# Altium footprint library ControlCircuit_PCB_Library_V1_0.PcbLib: 207 footprints (part 4 of 13)
Each footprint in its own frame and in the unit in brackets; x right, y up, seen from the top. Pads: shape width x height; smd on the part's side, far side on the other; paste and mask are expansions set on the pad; w line width, h text height; cw(c..) or ccw(c..) is an arc to the next point about the centre after c.
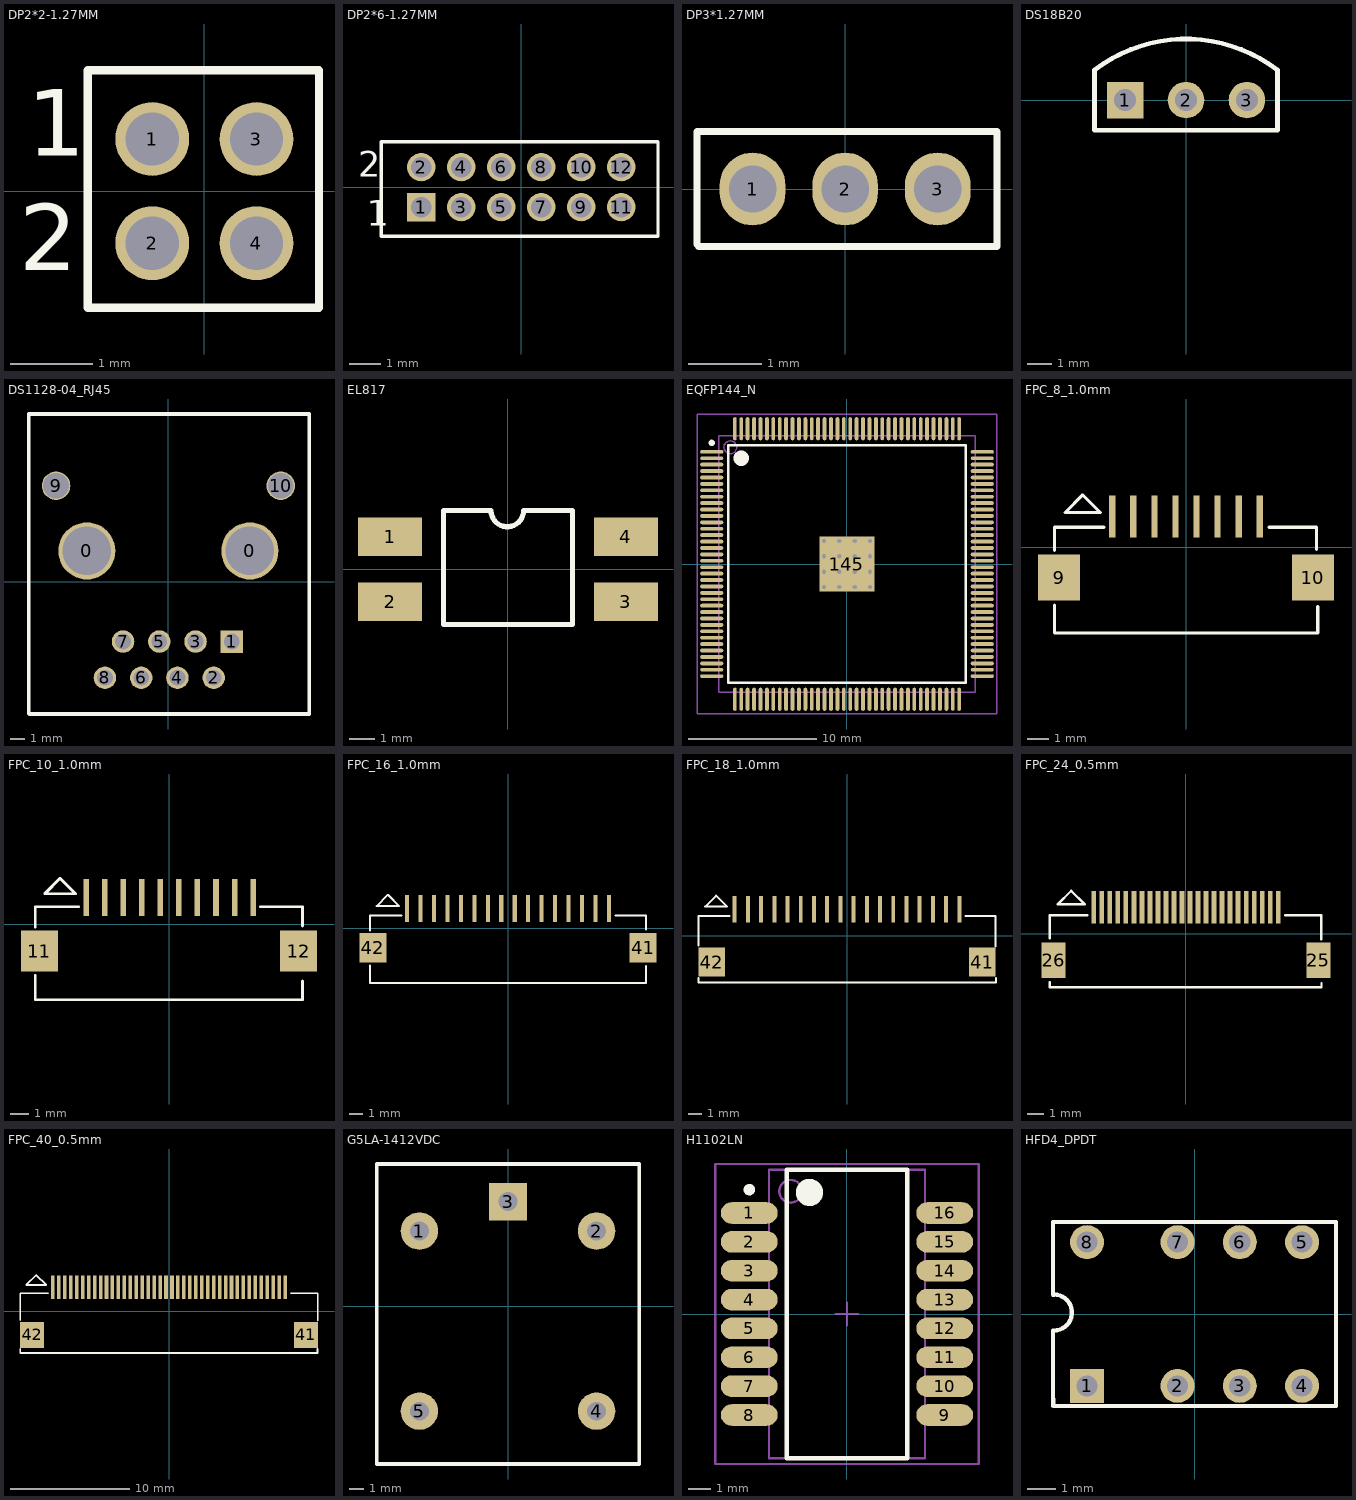
[diagram p3: the footprints below, top view; thin cyan lines are the x and y axes]

## DP2*2-1.27MM [mm]
pads (4):
  round 0.9 hole 0.65: 1(-0.635,0.635) 2(-0.635,-0.635) 3(0.635,0.635) 4(0.635,-0.635)
Top Overlay:
  lines w0.1: -1.422,-1.422 -1.422,1.473 1.397,1.473 1.397,-1.422 -1.397,-1.422
  text "2" at -2.261,-0.965 h0.81
  text "1" at -2.159,0.432 h0.81

## DP2*6-1.27MM [mm]
pads (12):
  rect 0.9x0.9 hole 0.65: 1(-3.175,-0.635)
  round 0.9 hole 0.65: 2(-3.175,0.635) 3(-1.905,-0.635) 4(-1.905,0.635) 5(-0.635,-0.635) 6(-0.635,0.635) 7(0.635,-0.635) 8(0.635,0.635) 9(1.905,-0.635) 10(1.905,0.635) 11(3.175,-0.635) 12(3.175,0.635)
Top Overlay:
  lines w0.1: -4.445,-1.56 -4.445,1.44 4.343,1.44 4.343,-1.56 -4.445,-1.56
  text "2" at -5.182,0.33 h0.81
  text "1" at -4.902,-1.219 h0.81

## DP3*1.27MM [mm]
pads (3):
  oval 0.9x1 hole 0.65: 1(-1.27,0) 2(0,0) 3(1.27,0)
Top Overlay:
  lines w0.1: -2.032,-0.762 -2.007,-0.787 2.083,-0.787 2.083,0.787 -2.032,0.787 -2.032,-0.762

## DS18B20 [mil]
pads (3):
  rect 60x60 hole 36: 1(-100,0)
  round 60 hole 36: 2(0,0) 3(100,0)
Top Overlay:
  lines w7.87: -150,49.25 -150,-49.53 150,-49.53 150,49.25 ; -149.92,49.31 cw(c0,-146.07) 149.92,49.31

## DS1128-04_RJ45 [mm]
pads (12):
  round 4 hole 3.4: 0(-5.715,2.16) 0(5.715,2.16)
  rect 1.575x1.575 hole 1.1: 1(4.445,-4.19)
  round 1.575 hole 1.1: 2(3.175,-6.73) 3(1.905,-4.19) 4(0.635,-6.73) 5(-0.635,-4.19) 6(-1.905,-6.73) 7(-3.175,-4.19) 8(-4.445,-6.73)
  round 2 hole 1.8: 9(-7.875,6.73) 10(7.875,6.73)
Top Overlay:
  lines w0.254: -9.788,-9.236 -9.788,11.764 9.875,11.764 9.875,-9.27 -9.754,-9.27 -9.788,-9.236

## EL817 [mm]
pads (4):
  rect 2.5x1.5 smd: 1(-4.6,1.27) 2(-4.6,-1.27) 3(4.6,-1.27) 4(4.6,1.27)
Top Overlay:
  lines w0.2: 0.607,2.286 cw(c-0.028,2.286) -0.663,2.286 -2.515,2.286 -2.515,-2.159 2.515,-2.159 2.515,2.286 0.635,2.286

## EQFP144_N [mm] "Thin QFP, 144-Leads, Body 20x20mm, Pitch 0.5mm, IPC Medium Density"
height 1.6
pads (145):
  oval 1.8x0.3 smd: 1(-10.55,8.75) 2(-10.55,8.25) 3(-10.55,7.75) 4(-10.55,7.25) 5(-10.55,6.75) 6(-10.55,6.25) 7(-10.55,5.75) 8(-10.55,5.25) 9(-10.55,4.75) 10(-10.55,4.25) 11(-10.55,3.75) 12(-10.55,3.25) 13(-10.55,2.75) 14(-10.55,2.25) 15(-10.55,1.75) 16(-10.55,1.25) 17(-10.55,0.75) 18(-10.55,0.25) 19(-10.55,-0.25) 20(-10.55,-0.75) 21(-10.55,-1.25) 22(-10.55,-1.75) 23(-10.55,-2.25) 24(-10.55,-2.75) 25(-10.55,-3.25) 26(-10.55,-3.75) 27(-10.55,-4.25) 28(-10.55,-4.75) 29(-10.55,-5.25) 30(-10.55,-5.75) 31(-10.55,-6.25) 32(-10.55,-6.75) 33(-10.55,-7.25) 34(-10.55,-7.75) 35(-10.55,-8.25) 36(-10.55,-8.75) 73(10.55,-8.75) 74(10.55,-8.25) 75(10.55,-7.75) 76(10.55,-7.25) 77(10.55,-6.75) 78(10.55,-6.25) 79(10.55,-5.75) 80(10.55,-5.25) 81(10.55,-4.75) 82(10.55,-4.25) 83(10.55,-3.75) 84(10.55,-3.25) 85(10.55,-2.75) 86(10.55,-2.25) 87(10.55,-1.75) 88(10.55,-1.25) 89(10.55,-0.75) 90(10.55,-0.25) 91(10.55,0.25) 92(10.55,0.75) 93(10.55,1.25) 94(10.55,1.75) 95(10.55,2.25) 96(10.55,2.75) 97(10.55,3.25) 98(10.55,3.75) 99(10.55,4.25) 100(10.55,4.75) 101(10.55,5.25) 102(10.55,5.75) 103(10.55,6.25) 104(10.55,6.75) 105(10.55,7.25) 106(10.55,7.75) 107(10.55,8.25) 108(10.55,8.75)
  oval 0.3x1.8 smd: 37(-8.75,-10.55) 38(-8.25,-10.55) 39(-7.75,-10.55) 40(-7.25,-10.55) 41(-6.75,-10.55) 42(-6.25,-10.55) 43(-5.75,-10.55) 44(-5.25,-10.55) 45(-4.75,-10.55) 46(-4.25,-10.55) 47(-3.75,-10.55) 48(-3.25,-10.55) 49(-2.75,-10.55) 50(-2.25,-10.55) 51(-1.75,-10.55) 52(-1.25,-10.55) 53(-0.75,-10.55) 54(-0.25,-10.55) 55(0.25,-10.55) 56(0.75,-10.55) 57(1.25,-10.55) 58(1.75,-10.55) 59(2.25,-10.55) 60(2.75,-10.55) 61(3.25,-10.55) 62(3.75,-10.55) 63(4.25,-10.55) 64(4.75,-10.55) 65(5.25,-10.55) 66(5.75,-10.55) 67(6.25,-10.55) 68(6.75,-10.55) 69(7.25,-10.55) 70(7.75,-10.55) 71(8.25,-10.55) 72(8.75,-10.55) 109(8.75,10.55) 110(8.25,10.55) 111(7.75,10.55) 112(7.25,10.55) 113(6.75,10.55) 114(6.25,10.55) 115(5.75,10.55) 116(5.25,10.55) 117(4.75,10.55) 118(4.25,10.55) 119(3.75,10.55) 120(3.25,10.55) 121(2.75,10.55) 122(2.25,10.55) 123(1.75,10.55) 124(1.25,10.55) 125(0.75,10.55) 126(0.25,10.55) 127(-0.25,10.55) 128(-0.75,10.55) 129(-1.25,10.55) 130(-1.75,10.55) 131(-2.25,10.55) 132(-2.75,10.55) 133(-3.25,10.55) 134(-3.75,10.55) 135(-4.25,10.55) 136(-4.75,10.55) 137(-5.25,10.55) 138(-5.75,10.55) 139(-6.25,10.55) 140(-6.75,10.55) 141(-7.25,10.55) 142(-7.75,10.55) 143(-8.25,10.55) 144(-8.75,10.55)
  rect 4.3x4.3 smd: 145(0,0)
via -1.8,1.8 diameter 0.66 hole 0.33
via -0.6,1.8 diameter 0.66 hole 0.33
via 0.6,1.8 diameter 0.66 hole 0.33
via 1.8,1.8 diameter 0.66 hole 0.33
via -1.8,0.6 diameter 0.66 hole 0.33
via -0.6,0.6 diameter 0.66 hole 0.33
via 0.6,0.6 diameter 0.66 hole 0.33
via 1.8,0.6 diameter 0.66 hole 0.33
via -1.8,-0.6 diameter 0.66 hole 0.33
via -0.6,-0.6 diameter 0.66 hole 0.33
via 0.6,-0.6 diameter 0.66 hole 0.33
via 1.8,-0.6 diameter 0.66 hole 0.33
via -1.8,-1.8 diameter 0.66 hole 0.33
via -0.6,-1.8 diameter 0.66 hole 0.33
via 0.6,-1.8 diameter 0.66 hole 0.33
via 1.8,-1.8 diameter 0.66 hole 0.33
Top Overlay:
  circle w0.25: c-10.55,9.45 r0.125
  circle w0.6: c-8.25,8.25 r0.3
  lines w0.2: -9.25,-9.25 -9.25,9.25 9.25,9.25 9.25,-9.25 -9.25,-9.25
Mechanical 13:
  circle w0.1: c-9.1,9.1 r0.5
  lines w0.1: -10,-10 -10,10 10,10 10,-10 -10,-10
Mechanical 15:
  lines w0.1: -0.5,0 0.5,0 ; 0,-0.5 0,0.5 ; -11.7,-11.7 -11.7,11.7 11.7,11.7 11.7,-11.7 -11.7,-11.7
3D body: height 1.6, standoff 0, extent -10,-10 10,10

## FPC_8_1.0mm [mm]
height 1
pads (10):
  rect 0.3x2 smd: 1(-3.5,1.448) 2(-2.499,1.448) 3(-1.499,1.448) 4(-0.499,1.448) 5(0.5,1.448) 6(1.5,1.448) 7(2.501,1.448) 8(3.501,1.448)
  rect 2x2.2 smd: 9(-6.025,-1.448) 10(6.025,-1.448)
Top Overlay:
  lines w0.152: -6.249,-0.152 -6.249,0.938 -3.899,0.938 ; -6.247,-2.769 -6.247,-4.078 6.254,-4.078 ; -4.904,2.478 -5.739,1.644 -4.075,1.644 -4.902,2.471 ; 3.941,0.938 6.203,0.938 ; 6.203,-0.102 6.203,0.913 ; 6.254,-4.088 6.254,-2.819

## FPC_10_1.0mm [mm]
height 1
pads (12):
  rect 0.3x2 smd: 1(-4.465,1.448) 2(-3.465,1.448) 3(-2.465,1.448) 4(-1.465,1.448) 5(-0.465,1.448) 6(0.535,1.448) 7(1.535,1.448) 8(2.535,1.448) 9(3.535,1.448) 10(4.535,1.448)
  rect 2x2.2 smd: 11(-6.991,-1.448) 12(6.991,-1.448)
Top Overlay:
  lines w0.152: -7.215,-0.152 -7.215,0.938 -4.864,0.938 ; -7.213,-2.769 -7.213,-4.078 7.194,-4.078 7.194,-3.064 ; -5.87,2.478 -6.704,1.644 -5.04,1.644 -5.867,2.471 ; 4.931,0.938 7.194,0.938 ; 7.194,-0.102 7.194,0.913

## FPC_16_1.0mm [mm]
pads (18):
  rect 0.3x2 smd: 1(-7.5,1.448) 2(-6.5,1.448) 3(-5.5,1.448) 4(-4.5,1.448) 5(-3.5,1.448) 6(-2.5,1.448) 7(-1.5,1.448) 8(-0.5,1.448) 9(0.5,1.448) 10(1.5,1.448) 11(2.5,1.448) 12(3.5,1.448) 13(4.5,1.448) 14(5.5,1.448) 15(6.5,1.448) 16(7.5,1.448)
  rect 2x2.2 smd: 41(10.026,-1.448) 42(-10.026,-1.448)
Top Overlay:
  lines w0.152: -10.25,-0.152 -10.25,0.938 -7.9,0.938 ; -10.248,-2.769 -10.248,-4.078 10.229,-4.078 10.229,-2.794 ; -8.905,2.478 -9.74,1.644 -8.075,1.644 -8.903,2.471 ; 7.966,0.938 10.229,0.938 ; 10.229,-0.102 10.229,0.913

## FPC_18_1.0mm [mm]
pads (20):
  rect 0.3x2 smd: 1(-8.5,2) 2(-7.5,2) 3(-6.5,2) 4(-5.5,2) 5(-4.5,2) 6(-3.5,2) 7(-2.5,2) 8(-1.5,2) 9(-0.5,2) 10(0.5,2) 11(1.5,2) 12(2.5,2) 13(3.5,2) 14(4.5,2) 15(5.5,2) 16(6.5,2) 17(7.5,2) 18(8.5,2)
  rect 2x2.2 smd: 41(10.25,-2) 42(-10.25,-2)
Top Overlay:
  lines w0.152: -11.25,-0.741 -11.25,1.49 -8.9,1.49 ; -11.248,-3.2 -11.248,-3.526 11.287,-3.526 11.287,-3.2 ; -9.905,3.03 -10.74,2.196 -9.075,2.196 -9.903,3.023 ; 8.966,1.49 11.229,1.49 ; 11.235,-0.806 11.235,1.465

## FPC_24_0.5mm [mm]
height 1.5
pads (26):
  rect 0.3x2 smd: 1(-5.75,1.65) 2(-5.25,1.65) 3(-4.75,1.65) 4(-4.25,1.65) 5(-3.75,1.65) 6(-3.25,1.65) 7(-2.75,1.65) 8(-2.25,1.65) 9(-1.75,1.65) 10(-1.25,1.65) 11(-0.75,1.65) 12(-0.25,1.65) 13(0.25,1.65) 14(0.75,1.65) 15(1.25,1.65) 16(1.75,1.65) 17(2.25,1.65) 18(2.75,1.65) 19(3.25,1.65) 20(3.75,1.65) 21(4.25,1.65) 22(4.75,1.65) 23(5.25,1.65) 24(5.75,1.65)
  rect 1.5x2.2 smd: 25(8.25,-1.65) 26(-8.25,-1.65)
Top Overlay:
  lines w0.152: -8.5,-0.288 -8.5,1.14 -6.15,1.14 ; -8.49,-3.009 -8.49,-3.335 8.445,-3.335 8.445,-3.074 ; -7.155,2.68 -7.989,1.846 -6.325,1.846 -7.153,2.673 ; 6.175,1.156 8.437,1.156 8.437,-0.338

## FPC_40_0.5mm [mm]
pads (42):
  rect 0.3x2 smd: 1(-9.75,2) 2(-9.25,2) 3(-8.75,2) 4(-8.25,2) 5(-7.75,2) 6(-7.25,2) 7(-6.75,2) 8(-6.25,2) 9(-5.75,2) 10(-5.25,2) 11(-4.75,2) 12(-4.25,2) 13(-3.75,2) 14(-3.25,2) 15(-2.75,2) 16(-2.25,2) 17(-1.75,2) 18(-1.25,2) 19(-0.75,2) 20(-0.25,2) 21(0.25,2) 22(0.75,2) 23(1.25,2) 24(1.75,2) 25(2.25,2) 26(2.75,2) 27(3.25,2) 28(3.75,2) 29(4.25,2) 30(4.75,2) 31(5.25,2) 32(5.75,2) 33(6.25,2) 34(6.75,2) 35(7.25,2) 36(7.75,2) 37(8.25,2) 38(8.75,2) 39(9.25,2) 40(9.75,2)
  rect 2x2.2 smd: 41(11.5,-2) 42(-11.5,-2)
Top Overlay:
  lines w0.152: -12.5,-0.741 -12.5,1.49 -10.15,1.49 ; -12.498,-3.2 -12.498,-3.526 12.469,-3.526 12.469,-3.2 ; -11.155,3.03 -11.99,2.196 -10.325,2.196 -11.153,3.023 ; 10.238,1.49 12.5,1.49 12.5,-0.806

## G5LA-1412VDC [mm]
pads (5):
  round 2.54 hole 1.27: 1(-6,5.1) 2(6,5.1) 4(6,-7.1) 5(-6,-7.1)
  rect 2.54x2.54 hole 1.27: 3(0,7.1)
Top Overlay:
  lines w0.254: -8.89,-10.68 -8.89,9.64 8.89,9.64 8.89,-10.68 -8.89,-10.68

## H1102LN [mm]
height 6
pads (16):
  oval 2.5x0.95 smd: 1(-4.3,4.445) 2(-4.3,3.175) 3(-4.3,1.905) 4(-4.3,0.635) 5(-4.3,-0.635) 6(-4.3,-1.905) 7(-4.3,-3.175) 8(-4.3,-4.445) 9(4.3,-4.445) 10(4.3,-3.175) 11(4.3,-1.905) 12(4.3,-0.635) 13(4.3,0.635) 14(4.3,1.905) 15(4.3,3.175) 16(4.3,4.445)
Top Overlay:
  circle w0.6: c-1.65,5.35 r0.3
  circle w0.25: c-4.3,5.47 r0.125
  lines w0.2: -2.65,-6.35 2.65,-6.35 2.65,6.35 -2.65,6.35 -2.65,-6.35
Mechanical 13:
  circle w0.1: c-2.48,5.4 r0.5
  lines w0.1: -3.43,-6.35 3.43,-6.35 3.43,6.35 -3.43,6.35 -3.43,-6.35
Mechanical 15:
  lines w0.1: -0.5,0 0.5,0 ; 0,-0.5 0,0.5 ; -5.8,-6.6 5.8,-6.6 5.8,6.6 -5.8,6.6 -5.8,-6.6
3D body: height 1.1, standoff 0.1, extent -3.43,-6.35 3.43,6.35

## HFD4_DPDT [mm]
height 1.1
pads (8):
  rect 1.2x1.2 hole 0.75: 1(-3.8,-2.54)
  round 1.2 hole 0.75: 2(-0.6,-2.54) 3(1.6,-2.54) 4(3.8,-2.54) 5(3.8,2.54) 6(1.6,2.54) 7(-0.6,2.54) 8(-3.8,2.54)
Top Overlay:
  lines w0.152: -5,-0.584 -5,-2.997 -4.997,-3 -4.997,-3.25 5,-3.25 5,3.25 -5,3.25 -5,0.686 ; -4.968,-0.584 ccw(c-4.968,0.051) -4.968,0.686